# EAGLE library part PWRBOARD (library Termostat)
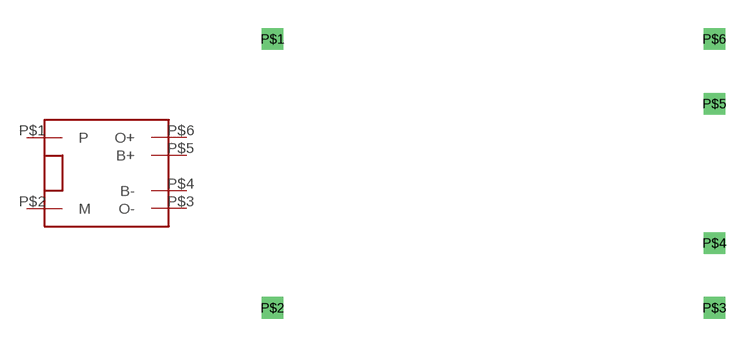
[diagram p1: symbol with the pads of POWERPINS; footprint POWERPINS]

Designator prefix -

## PWRBOARD  [POWERPINS]
P$1  P
P$2  M
P$3  O-
P$4  B-
P$5  B+
P$6  O+

## Footprint POWERPINS (pad centres in mm)
drill 0.65 square: P$1 -12.07,6.7; P$2 -12.07,-7.62; P$3 11.43,-7.62; P$4 11.43,-4.17; P$5 11.43,3.25; P$6 11.43,6.7